# EAGLE library part HFD4_5-SR_257_ (library HFD4_5-SR_257_)
HFD4 Subminiature Signal Relay 3 VDC 140 MW Source: Datasheet <https://www.mouser.de/datasheet/2/418/6/ENG_DS_1_1773969_4_2002-1956266.pdf>
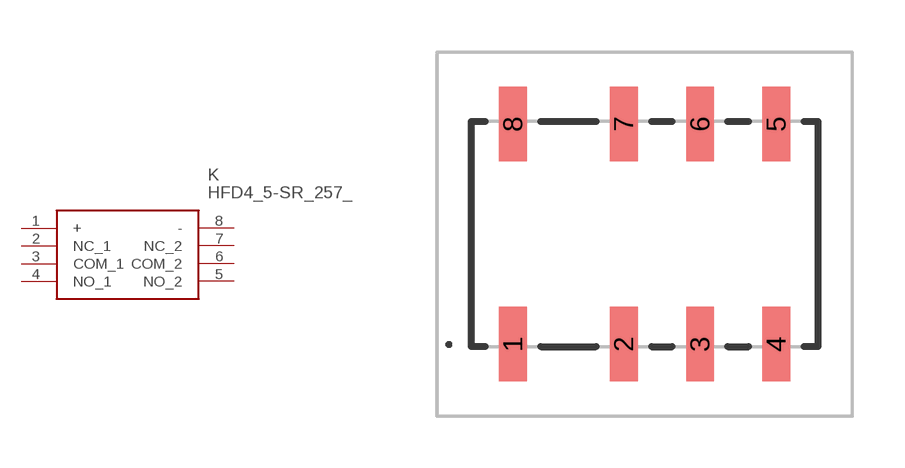
[diagram p0: symbol with the pads of HFD45SR257; footprint HFD45SR257]

Designator prefix K

## HFD4_5-SR_257_ (Description: HFD4 Subminiature Signal Relay 3 VDC 140 MW; Height: 5.65mm; Manufacturer_Name: Hongfa; Manufacturer_Part_Number: HFD4/5-SR(257))  [HFD45SR257]
1  +
2  NC_1
3  COM_1
4  NO_1
5  NO_2
6  COM_2
7  NC_2
8  -

## Footprint HFD45SR257 (pad centres in mm)
HFD4/5-SR(257)-1
smd 0.8 x 2.15: 1 -3.8,-3.175; 2 -0.6,-3.175; 3 1.6,-3.175; 4 3.8,-3.175; 5 3.8,3.175; 6 1.6,3.175; 7 -0.6,3.175; 8 -3.8,3.175